# EAGLE library part MICROMATCH-12 (library con-amp-micromatch)
MicroMaTch 12 8-215464-2 / 1-215464-2 Drawing Number C-215464 DDEController.pdf
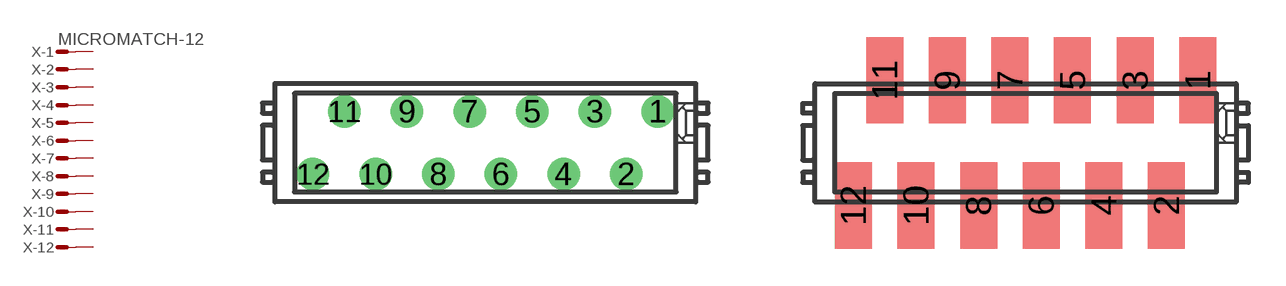
[diagram p4: symbol with the pads of MICROMATCH-12; footprints MICROMATCH-12, MMT-SMD-12]

Designator prefix X; gates -1=MV -2=M -3=M -4=M -5=M -6=M -7=M -8=M -9=M -10=M -11=M -12=M

## MICROMATCH-12  [MICROMATCH-12]
1  -1:S  pas
2  -2:S  pas
3  -3:S  pas
4  -4:S  pas
5  -5:S  pas
6  -6:S  pas
7  -7:S  pas
8  -8:S  pas
9  -9:S  pas
10  -10:S  pas
11  -11:S  pas
12  -12:S  pas

## MICROMATCH-12SM  [MMT-SMD-12]
Pads as for MICROMATCH-12

## MICROMATCH-12SMF  [MMT-F-SMD-12]
Pads as for MICROMATCH-12

## Footprint MICROMATCH-12 (pad centres in mm)
MicroMaTch 12 8-215464-2 / 1-215464-2 Drawing Number C-215464 DDEController.pdf
drill 0.813 round: 1 6.985,1.27; 2 5.715,-1.27; 3 4.445,1.27; 4 3.175,-1.27; 5 1.905,1.27; 6 0.635,-1.27; 7 -0.635,1.27; 8 -1.905,-1.27; 9 -3.175,1.27; 10 -4.445,-1.27; 11 -5.715,1.27; 12 -6.985,-1.27

## Footprint MMT-SMD-12 (pad centres in mm)
MicroMaTch 12 SMD 7-215464-12
smd 1.5 x 3.5: 1 6.985,2.54; 2 5.715,-2.54; 3 4.445,2.54; 4 3.175,-2.54; 5 1.905,2.54; 6 0.635,-2.54; 7 -0.635,2.54; 8 -1.905,-2.54; 9 -3.175,2.54; 10 -4.445,-2.54; 11 -5.715,2.54; 12 -6.985,-2.54

## Footprint MMT-F-SMD-12 (pad centres in mm)
MicroMaTch 12 SMD 7-215464-12
smd 1.3 x 3.5: 1 6.985,-2.54; 2 5.715,2.54; 3 4.445,-2.54; 4 3.175,2.54; 5 1.905,-2.54; 6 0.635,2.54; 7 -0.635,-2.54; 8 -1.905,2.54; 9 -3.175,-2.54; 10 -4.445,2.54; 11 -5.715,-2.54; 12 -6.985,2.54